# EAGLE library part I__4031 (library ..SMD)
64-bit static SHIFT REGISTER
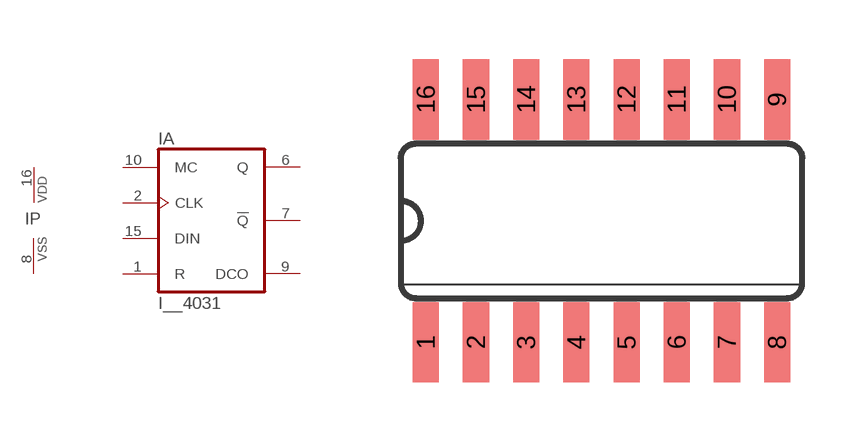
[diagram p34: symbol with the pads of SO16; footprint SO16]

Designator prefix I; gates A=4031 P=PWRN

## I__4031D  [SO16]
1  A:R  in
2  A:CLK  in
6  A:Q  out
7  A:!Q  out
8  P:VSS  pwr
9  A:DCO  out
10  A:MC  in
15  A:DIN  in
16  P:VDD  pwr

## Footprint SO16 (pad centres in mm)
Small Outline Package 16
smd 0.66 x 2.032: 1 -4.445,-3.073; 2 -3.175,-3.073; 3 -1.905,-3.073; 4 -0.635,-3.073; 5 0.635,-3.073; 6 1.905,-3.073; 7 3.175,-3.073; 8 4.445,-3.073; 9 4.445,3.073; 10 3.175,3.073; 11 1.905,3.073; 12 0.635,3.073; 13 -0.635,3.073; 14 -1.905,3.073; 15 -3.175,3.073; 16 -4.445,3.073